# Altium footprint library CONN-TH_MTE210-14RL.PcbLib: 1 footprints
Each footprint in its own frame and in the unit in brackets; x right, y up, seen from the top. Pads: shape width x height; smd on the part's side, far side on the other; paste and mask are expansions set on the pad; w line width, h text height; cw(c..) or ccw(c..) is an arc to the next point about the centre after c.
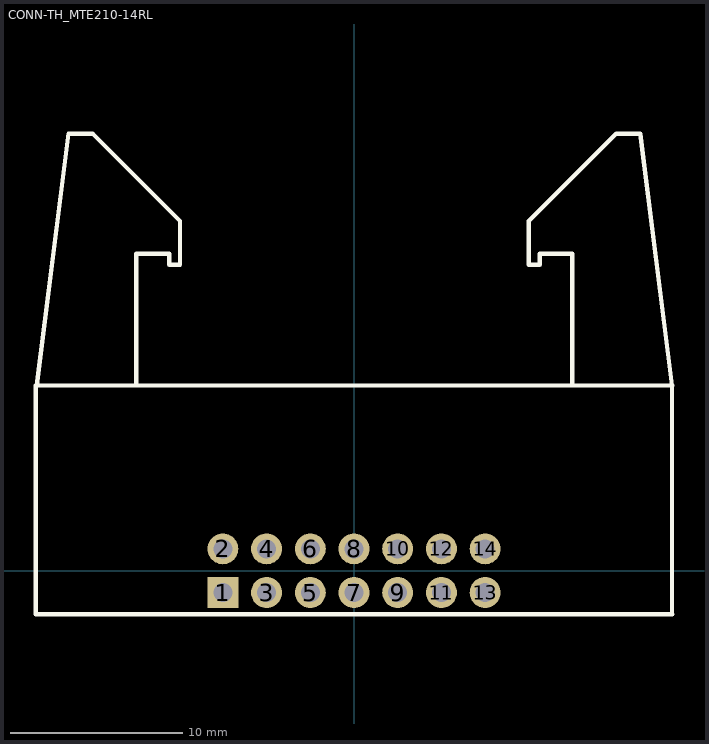
[diagram p0: the footprint, top view; thin cyan lines are the x and y axes]

## CONN-TH_MTE210-14RL [mm]
pads (14):
  rect 1.8x1.8 hole 1.1: 1(-7.62,-1.27)
  round 1.8 hole 1.1: 2(-7.62,1.27) 3(-5.08,-1.27) 4(-5.08,1.27) 5(-2.54,-1.27) 6(-2.54,1.27) 7(0,-1.27) 8(0,1.27) 9(2.54,-1.27) 10(2.54,1.27) 11(5.08,-1.27) 12(5.08,1.27) 13(7.62,-1.27) 14(7.62,1.27)
Top Overlay:
  lines w0.254: -18.44,10.76 -16.587,25.4 -15.19,25.4 -10.11,20.32 -10.11,17.78 -10.745,17.78 -10.745,18.415 -12.65,18.415 -12.648,10.76 ; 12.691,10.76 12.693,18.415 10.788,18.415 10.788,17.78 10.153,17.78 10.153,20.32 15.233,25.4 16.63,25.4 18.483,10.76 18.483,-2.54 ; 18.49,-2.54 -18.49,-2.54 -18.49,10.76 18.49,10.76